# Altium schematic symbol library preamp.SchLib: 1 symbol
Pins are listed as number, name and electrical type; pins without a type are passive.

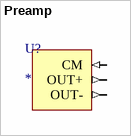
[diagram p0: symbol Preamp]

## Preamp
designator U?
pins: CM (in), OUT+ (out), OUT- (out)